# EAGLE library part NOKIA5110 (library 1dah)
Nokia 84x48 pixel LCD display
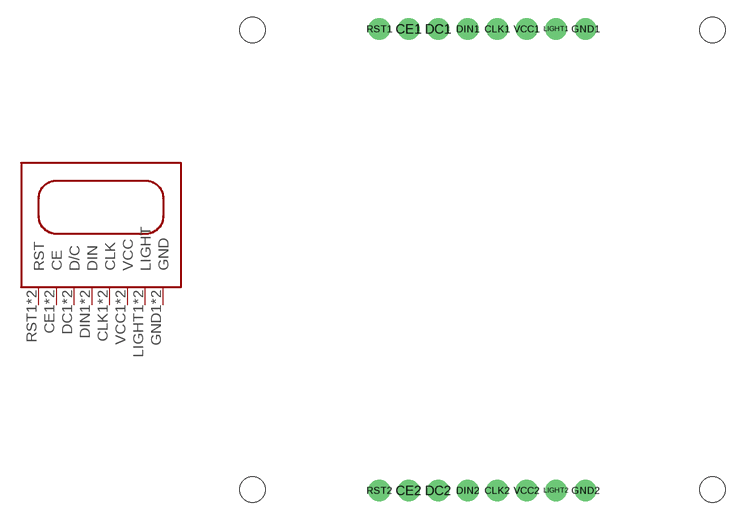
[diagram p64: symbol with the pads of NOKIA5110; footprint NOKIA5110]

Designator prefix -

## NOKIA5110  [NOKIA5110]
CE1  CE
CE2  CE
CLK1  CLK
CLK2  CLK
DC1  D/C
DC2  D/C
DIN1  DIN
DIN2  DIN
GND1  GND
GND2  GND
LIGHT1  LIGHT
LIGHT2  LIGHT
RST1  RST
RST2  RST
VCC1  VCC
VCC2  VCC

## Footprint NOKIA5110 (pad centres in mm)
drill 1.016 pad 1.88: CE1 -6.36,19.9; CE2 -6.36,-19.9; CLK1 1.26,19.9; CLK2 1.26,-19.9; DC1 -3.82,19.9; DC2 -3.82,-19.9; DIN1 -1.28,19.9; DIN2 -1.28,-19.9; GND1 8.88,19.9; GND2 8.88,-19.9; LIGHT1 6.34,19.9; LIGHT2 6.34,-19.9; RST1 -8.9,19.9; RST2 -8.9,-19.9; VCC1 3.8,19.9; VCC2 3.8,-19.9
hole 2.2 at -19.8,19.8
hole 2.2 at 19.8,19.8
hole 2.2 at 19.8,-19.8
hole 2.2 at -19.8,-19.8